# EAGLE library part RELAY(L) (library relay)
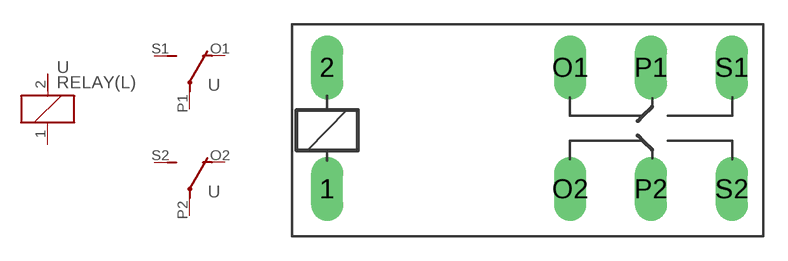
[diagram p1: symbol with the pads of G2R2; footprint G2R2]

Designator prefix -; gates 1=K R1=U R2=U

## RELAY(L)  [G2R2]
1  1:1  pas
2  1:2  pas
O1  R1:O  pas
O2  R2:O  pas
P1  R1:P  pas
P2  R2:P  pas
S1  R1:S  pas
S2  R2:S  pas

## Footprint G2R2 (pad centres in mm)
drill 1.321 long: 1 -11.43,-3.683; 2 -11.43,3.81; O1 3.581,3.81; O2 3.581,-3.683; P1 8.56,3.81; P2 8.56,-3.683; S1 13.564,3.81; S2 13.564,-3.683